# EAGLE library part DP4W (library mmoretti)
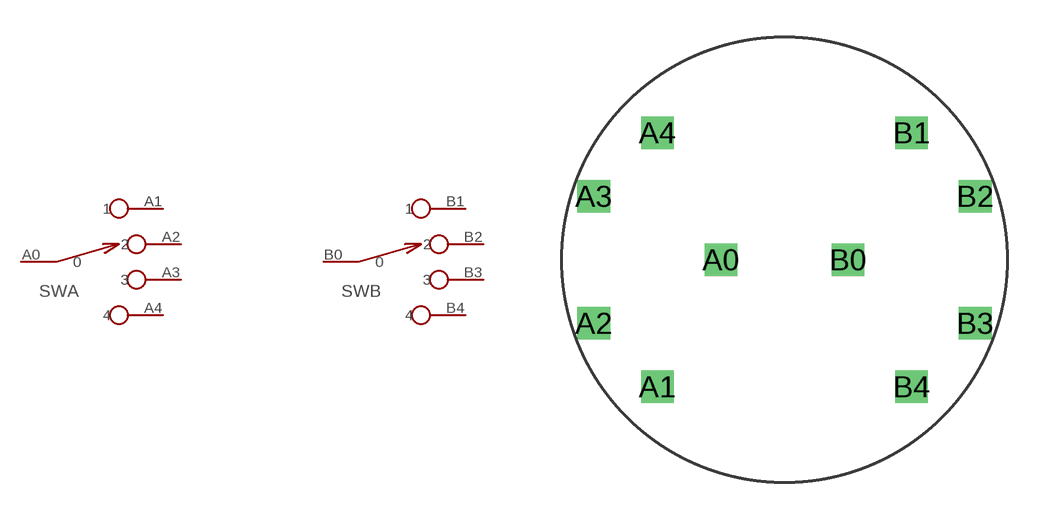
[diagram p36: symbol with the pads of DP4W; footprint DP4W]

Designator prefix SW; gates A=SP4W B=SP4W

## DP4W  [DP4W]
A0  A:0  pas
A1  A:1  pas
A2  A:2  pas
A3  A:3  pas
A4  A:4  pas
B0  B:0  pas
B1  B:1  pas
B2  B:2  pas
B3  B:3  pas
B4  B:4  pas

## Footprint DP4W (pad centres in mm)
drill 0.8 square: A0 -2.54,0; A1 -5.08,-5.08; A2 -7.62,-2.54; A3 -7.62,2.54; A4 -5.08,5.08; B0 2.54,0; B1 5.08,5.08; B2 7.62,2.54; B3 7.62,-2.54; B4 5.08,-5.08